# EAGLE library part MS5535C- (library SENSOR)
MS5535C 14 bar Pressure Sensor Module Datasheet <http://www.mouser.com/ds/2/418/MS5535C-736556.pdf>
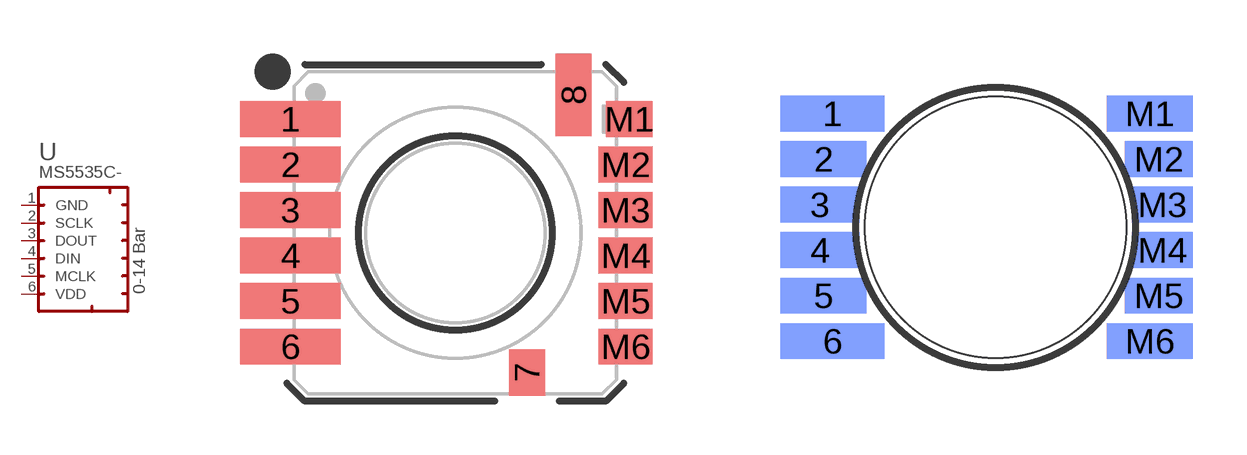
[diagram p4: symbol with the pads of MS5535; footprints MS5535, MS5535-BOT]

Designator prefix U

## MS5535C- (MFPN: MS5535C)  [MS5535]
1  GND  pwr
2  SCLK  in
3  DOUT  out
4  DIN  in
5  MCLK  in
6  VDD  pwr

## MS5535C-BOT (MFPN: MS5535C)  [MS5535-BOT]
Pads as for MS5535

## Footprint MS5535 (pad centres in mm)
MS5535C 14 bar Pressure Sensor Module Datasheet <http://www.mouser.com/ds/2/418/MS5535C-736556.pdf>
smd 2.8 x 1: 1 -4.6,3.175; 2 -4.6,1.905; 3 -4.6,0.635; 4 -4.6,-0.635; 5 -4.6,-1.905; 6 -4.6,-3.175
smd 1 x 1.3: 7 2,-3.9
smd 1 x 2.3: 8 3.3,3.85
smd 1.3 x 1: M1 4.85,3.175
smd 1.5 x 1: M2 4.75,1.905; M3 4.75,0.635; M4 4.75,-0.635; M5 4.75,-1.905; M6 4.75,-3.175

## Footprint MS5535-BOT (pad centres in mm)
MS5535C 14 bar Pressure Sensor Module, bottom entry Datasheet <http://www.mouser.com/ds/2/418/MS5535C-736556.pdf>
smd 2.9 x 1 bottom: 1 -4.55,3.175; 6 -4.55,-3.175
smd 2.4 x 1 bottom: 2 -4.8,1.905; 5 -4.8,-1.905; M1 4.3,3.175; M6 4.3,-3.175
smd 2.2 x 1 bottom: 3 -4.9,0.635; 4 -4.9,-0.635
smd 1.9 x 1 bottom: M2 4.55,1.905; M5 4.55,-1.905
smd 1.7 x 1 bottom: M3 4.65,0.635; M4 4.65,-0.635
hole 7.3 at 0,0